# EAGLE library part 555799-1 (library con-amp)
AMP connector
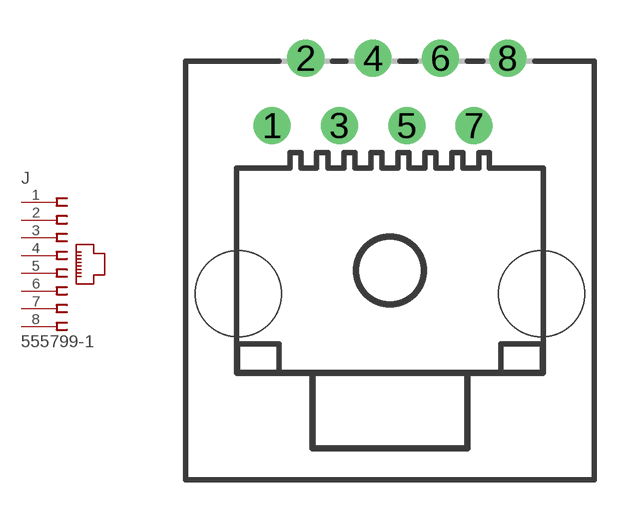
[diagram p20: symbol with the pads of 555799-1; footprint 555799-1]

Designator prefix J

## 555799-1  [555799-1]
1  1  pas
2  2  pas
3  3  pas
4  4  pas
5  5  pas
6  6  pas
7  7  pas
8  8  pas

## Footprint 555799-1 (pad centres in mm)
Modular Jack without Panel Stops
drill 0.889: 1 -4.445,5.461; 2 -3.175,8.001; 3 -1.905,5.461; 4 -0.635,8.001; 5 0.635,5.461; 6 1.905,8.001; 7 3.175,5.461; 8 4.445,8.001
hole 3.251 at -5.715,-0.889
hole 3.251 at 5.715,-0.889